# Altium schematic symbol library 5015680207.Schlib: 1 symbol
Pins are listed as number, name and electrical type; pins without a type are passive.

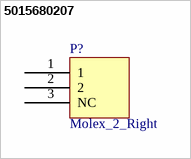
[diagram p0: symbol 5015680207]

## 5015680207
designator P?, comment Molex_2_Right
2 Pin Right Molex PCB Header
pins: 1, 2, 3 NC